# Altium schematic symbol library SCH - POWER - SWITCHMODE - TI TPS54295PWP.SchLib: 1 symbol
Pins are listed as number, name and electrical type; pins without a type are passive.

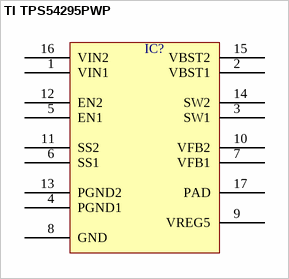
[diagram p0: symbol TI TPS54295PWP]

## TI TPS54295PWP
designator IC?  (value not drawn)
pins: 1 VIN1, 2 VBST1, 3 SW1, 4 PGND1, 5 EN1, 6 SS1, 7 VFB1, 8 GND, 9 VREG5, 10 VFB2, 11 SS2, 12 EN2, 13 PGND2, 14 SW2, 15 VBST2, 16 VIN2, 17 PAD